# Altium schematic symbol library STM32F030K6T6TR.SchLib: 2 symbols
Pins are listed as number, name and electrical type; pins without a type are passive.

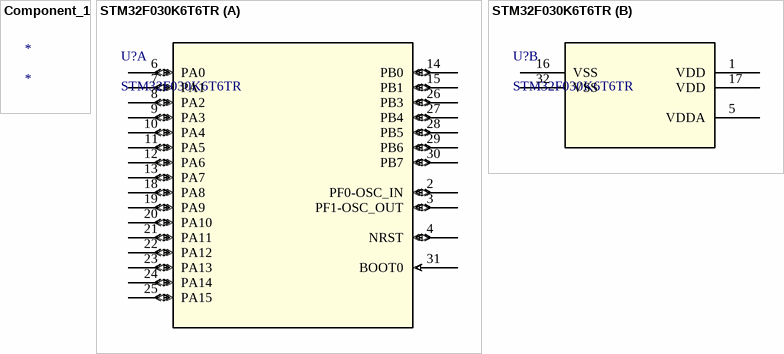
[diagram p0: symbols Component_1 to STM32F030K6T6TR]

## Component_1
designator *

## STM32F030K6T6TR
designator U?
No Description Available; Mfr_Name: STMicroelectronics; Copyright: Copyright (C) 2023 Ultra Librarian. All rights reserved.; Manufacturer_Part_Number: STM32F030K6T6TR; RefDes: RefDes; Type: DEV
footprint LQFP-32
part A pins: 2 PF0-OSC_IN (io), 3 PF1-OSC_OUT (io), 4 NRST (io), 6 PA0 (io), 7 PA1 (io), 8 PA2 (io), 9 PA3 (io), 10 PA4 (io), 11 PA5 (io), 12 PA6 (io), 13 PA7 (io), 14 PB0 (io), 15 PB1 (io), 18 PA8 (io), 19 PA9 (io), 20 PA10 (io), 21 PA11 (io), 22 PA12 (io), 23 PA13 (io), 24 PA14 (io), 25 PA15 (io), 26 PB3 (io), 27 PB4 (io), 28 PB5 (io), 29 PB6 (io), 30 PB7 (io), 31 BOOT0 (in)
part B pins: 1 VDD (power), 5 VDDA (power), 16 VSS (power), 17 VDD (power), 32 VSS (power)